# EAGLE library part BLUE_PILL_FOR_LORA (library bluePillBoard)
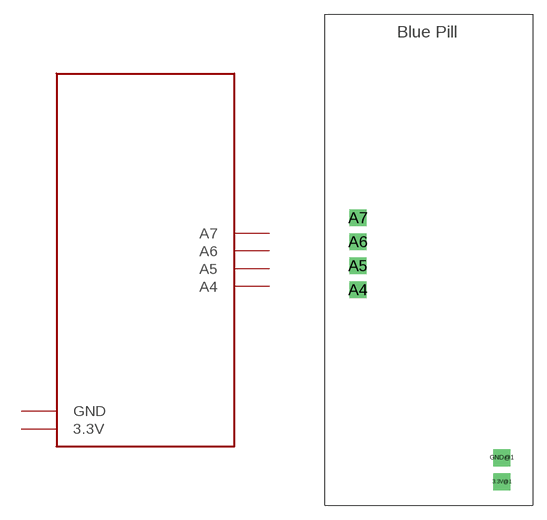
[diagram p1: symbol with the pads of BLUE_PILL_FOR_LORA; footprint BLUE_PILL_FOR_LORA]

Designator prefix -

## BLUE_PILL_FOR_LORA  [BLUE_PILL_FOR_LORA]
3.3V@1  3.3V  pwr
A4  A4
A5  A5
A6  A6
A7  A7
GND@1  GND  pwr

## Footprint BLUE_PILL_FOR_LORA (pad centres in mm)
drill 0.8 pad 1.778 square: 3.3V@1 7.31,-25.44; A4 -7.93,-5.12; A5 -7.93,-2.58; A6 -7.93,-0.04; A7 -7.93,2.5; GND@1 7.31,-22.9